# EAGLE library part IXDF604 (library DO NOT USE gwu_mpnl)
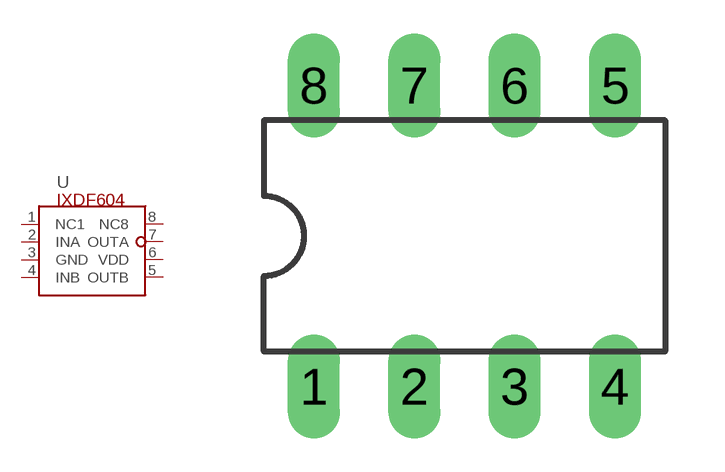
[diagram p1: symbol with the pads of DIL08; footprint DIL08]

Designator prefix -

## IXDF604PI  [DIL08]
1  NC1  nc
2  INA
3  GND
4  INB
5  OUTB
6  VDD
7  OUTA
8  NC8  nc

## Footprint DIL08 (pad centres in mm)
drill 0.813 long: 1 -3.81,-3.81; 2 -1.27,-3.81; 3 1.27,-3.81; 4 3.81,-3.81; 5 3.81,3.81; 6 1.27,3.81; 7 -1.27,3.81; 8 -3.81,3.81